# Altium schematic symbol library Sch_Capacitors.SchLib: 14 symbols
Pins are listed as number, name and electrical type; pins without a type are passive.

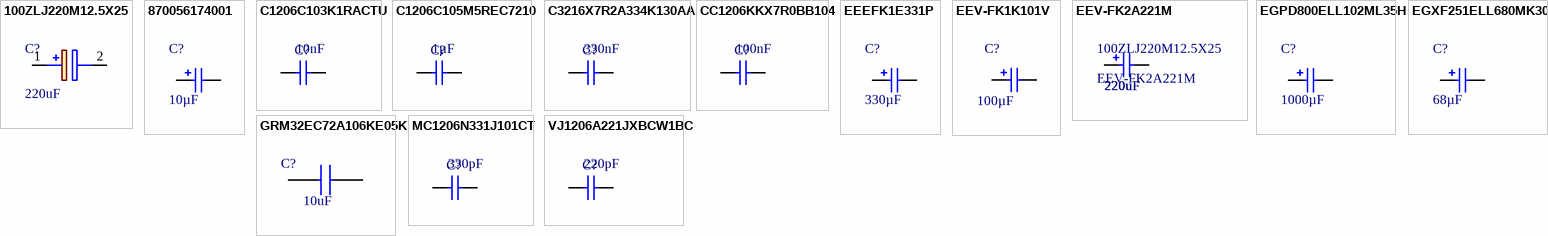
[diagram p0: symbols 100ZLJ220M12.5X25 to VJ1206A221JXBCW1BC]

## 100ZLJ220M12.5X25
designator C?  value 220uF  (hidden comment: 100ZLJ220M12.5X25)
Capacitor Polarised; Manufacturer_Name: Rubycon; Datasheet Link: https://componentsearchengine.com/Datasheets/2/100ZLJ220M12.5X25.pdf; Height: 27mm; Manufacturer_Part_Number: 100ZLJ220M12.5X25; Mouser Part Number: 232-100ZLJ220M125X25; Mouser Price/Stock: https://www.mouser.com/Search/Refine.aspx?Keyword=232-100ZLJ220M125X25; Arrow Part Number: 100ZLJ220M12.5X25; Arrow Price/Stock: https://www.arrow.com/en/products/100zlj220m12.5x25/rubycon
footprint CAPPRD500W60D1275H2700
pins: 1 +, 2 -

## 870056174001
designator C?  value 10µF  (hidden comment: 870056174001)
Capacitor Polarised 10uF; Manufacturer_Name: Panasonic; Manufacturer_Part_Number: EEV-FK1K101V; Datasheet Link: http://industrial.panasonic.com/cdbs/www-data/pdf/RDE0000/ABA0000C1181.pdf; Height: 14.3mm; Mouser Part Number: 667-EEV-FK1K101V; Mouser Price/Stock: https://www.mouser.co.uk/ProductDetail/Panasonic/EEV-FK1K101V?qs=MtOUKumLmnbTFvRMlB7%2FdA%3D%3D
footprint 870056174001 (10uF)
pins: 1, 2

## C1206C103K1RACTU
designator C?  value 10nF  (hidden comment: C1206C103K1RACTU)
Capacitor 10nF; Published: 8-Jun-2000; LatestRevisionDate: 17-Jul-2002; LatestRevisionNote: Re-released for DXP Platform.; PackageReference: RAD-0.3; Publisher: Altium Limited; PackageDescription: Radial Cap, Thru-Hole; 2 Leads; 0.3 in Pin Spacing; Supplier 1: Mouser
footprint CAPC3216X180N
pins: 1, 2

## C1206C105M5REC7210
designator C?  value 1µF  (hidden comment: C1206C105M5REC7210)
Capacitor 1uF; Published: 8-Jun-2000; LatestRevisionDate: 17-Jul-2002; LatestRevisionNote: Re-released for DXP Platform.; PackageReference: RAD-0.3; Publisher: Altium Limited; PackageDescription: Radial Cap, Thru-Hole; 2 Leads; 0.3 in Pin Spacing; Supplier 1: Farnell
footprint CAPC3216X180N
pins: 1, 2

## C3216X7R2A334K130AA
designator C?  value 330nF  (hidden comment: C3216X7R2A334K130AA)
Capacitor 330nF; Published: 8-Jun-2000; LatestRevisionDate: 17-Jul-2002; LatestRevisionNote: Re-released for DXP Platform.; PackageReference: RAD-0.3; Publisher: Altium Limited; PackageDescription: Radial Cap, Thru-Hole; 2 Leads; 0.3 in Pin Spacing; Supplier 1: Mouser
footprint CAPC3216X180N
pins: 1, 2

## CC1206KKX7R0BB104
designator C?  value 100nF  (hidden comment: CC1206KKX7R0BB104)
Capacitor 100nF; Published: 8-Jun-2000; LatestRevisionDate: 17-Jul-2002; LatestRevisionNote: Re-released for DXP Platform.; PackageReference: RAD-0.3; Publisher: Altium Limited; PackageDescription: Radial Cap, Thru-Hole; 2 Leads; 0.3 in Pin Spacing; Supplier 1: Farnell
footprint CAPC3216X180N
pins: 1, 2

## EEEFK1E331P
designator C?  value 330µF  (hidden comment: EEEFK1E331P)
Capacitor 330uF; Manufacturer_Name: Panasonic; Manufacturer_Part_Number: EEV-FK1K101V; Datasheet Link: http://industrial.panasonic.com/cdbs/www-data/pdf/RDE0000/ABA0000C1181.pdf; Height: 14.3mm; Mouser Part Number: 667-EEV-FK1K101V; Mouser Price/Stock: https://www.mouser.co.uk/ProductDetail/Panasonic/EEV-FK1K101V?qs=MtOUKumLmnbTFvRMlB7%2FdA%3D%3D; Supplier 1: Mouser
footprint EEE0JA471UAP
pins: 1, 2

## EEV-FK1K101V
designator C?  value 100µF  (hidden comment: EEV-FK1K101V)
Capacitor 100uF; Manufacturer_Name: Panasonic; Datasheet Link: http://industrial.panasonic.com/cdbs/www-data/pdf/RDE0000/ABA0000C1181.pdf; Height: 14.3mm; Manufacturer_Part_Number: EEV-FK1K101V; Mouser Part Number: 667-EEV-FK1K101V; Mouser Price/Stock: https://www.mouser.co.uk/ProductDetail/Panasonic/EEV-FK1K101V?qs=MtOUKumLmnbTFvRMlB7%2FdA%3D%3D; Supplier 1: Mouser
footprint EEEFK0J332AV
pins: 1, 2

## EEV-FK2A221M
designator 100ZLJ220M12.5X25
Capacitor 220uF; Manufacturer_Name: Panasonic; Datasheet Link: http://industrial.panasonic.com/cdbs/www-data/pdf/RDE0000/ABA0000C1181.pdf; Height: 17mm; Manufacturer_Part_Number: EEV-FK2A221M; Mouser Part Number: 667-EEV-FK2A221M; Mouser Price/Stock: https://www.mouser.co.uk/ProductDetail/Panasonic/EEV-FK2A221M?qs=f%252BPvLx1Hi0lum2kXFW5X7Q%3D%3D; Arrow Part Number: EEV-FK2A221M; Arrow Price/Stock: https://www.arrow.com/en/products/eevfk2a221m/panasonic; Value: 220uF
footprint EEEFK0J103SM
pins: 1, 1, 1, 1, 1, 1, 1, 1, 2, 2, 2, 2, 2, 2, 2, 2

## EGPD800ELL102ML35H
designator C?  value 1000µF  (hidden comment: EGPD800ELL102ML35H)
Capacitor 1000uF; Manufacturer_Name: Panasonic; Manufacturer_Part_Number: EEV-FK1K101V; Datasheet Link: http://industrial.panasonic.com/cdbs/www-data/pdf/RDE0000/ABA0000C1181.pdf; Height: 14.3mm; Mouser Part Number: 667-EEV-FK1K101V; Mouser Price/Stock: https://www.mouser.co.uk/ProductDetail/Panasonic/EEV-FK1K101V?qs=MtOUKumLmnbTFvRMlB7%2FdA%3D%3D
footprint EGPD800ELL102ML35H (1000uF)
pins: 1, 1, 2, 2

## EGXF251ELL680MK30S
designator C?: 68µF  (hidden comment: EGXF251ELL680MK30S)
Capacitor 68uF; Manufacturer_Name: Panasonic; Manufacturer_Part_Number: EEV-FK1K101V; Value: 68µF; Datasheet Link: http://industrial.panasonic.com/cdbs/www-data/pdf/RDE0000/ABA0000C1181.pdf; Height: 14.3mm; Mouser Part Number: 667-EEV-FK1K101V; Mouser Price/Stock: https://www.mouser.co.uk/ProductDetail/Panasonic/EEV-FK1K101V?qs=MtOUKumLmnbTFvRMlB7%2FdA%3D%3D
footprint EGXF251ELL680MK30S (68uF)
pins: 1, 2

## GRM32EC72A106KE05K
designator C?  value 10uF  (hidden comment: GRM32EC72A106KE05K)
Ceramic capacitor 10uF; Manufacturer_Name: Murata Electronics; Height: 2.7mm; Manufacturer_Part_Number: GRM32EC72A106KE05K; Mouser Part Number: 81-GRM32EC72A106KE5K; Mouser Price/Stock: https://www.mouser.co.uk/ProductDetail/Murata-Electronics/GRM32EC72A106KE05K?qs=rrS6PyfT74e65RehvwNPbw%3D%3D; Arrow Part Number: GRM32EC72A106KE05K; Arrow Price/Stock: https://www.arrow.com/en/products/grm32ec72a106ke05k/murata-manufacturing?region=nac
footprint CAPC3225X270N
pins: 1, 2

## MC1206N331J101CT
designator C?  value 330pF  (hidden comment: MC1206N331J101CT)
Capacitor 330pF; Published: 8-Jun-2000; LatestRevisionDate: 17-Jul-2002; LatestRevisionNote: Re-released for DXP Platform.; PackageReference: RAD-0.3; Publisher: Altium Limited; PackageDescription: Radial Cap, Thru-Hole; 2 Leads; 0.3 in Pin Spacing; Supplier 1: Farnell
footprint CAPC3216X180N
pins: 1, 2

## VJ1206A221JXBCW1BC
designator C?  value 220pF  (hidden comment: VJ1206A221JXBCW1BC)
Capacitor 220pF; Published: 8-Jun-2000; LatestRevisionDate: 17-Jul-2002; LatestRevisionNote: Re-released for DXP Platform.; PackageReference: RAD-0.3; Publisher: Altium Limited; PackageDescription: Radial Cap, Thru-Hole; 2 Leads; 0.3 in Pin Spacing; Supplier 1: Mouser
footprint CAPC3216X180N
pins: 1, 1, 2, 2